# Altium footprint library Capacitor.PcbLib: 5 footprints
Each footprint in its own frame and in the unit in brackets; x right, y up, seen from the top. Pads: shape width x height; smd on the part's side, far side on the other; paste and mask are expansions set on the pad; w line width, h text height; cw(c..) or ccw(c..) is an arc to the next point about the centre after c.
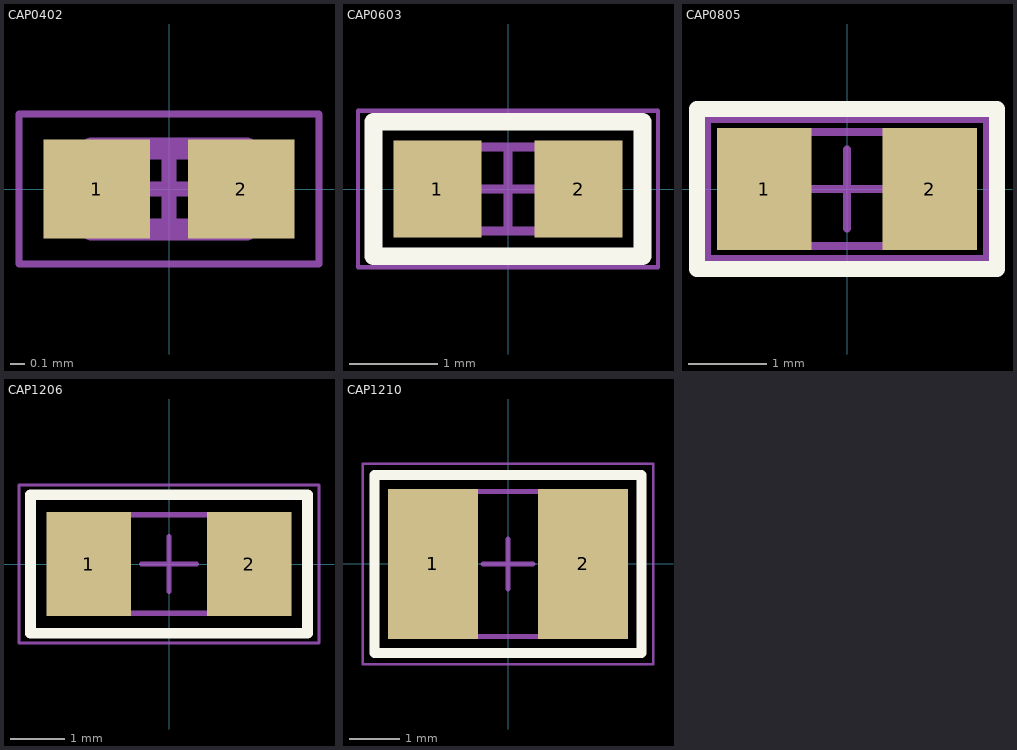
[diagram p0: the footprints below, top view; thin cyan lines are the x and y axes]

## CAP0402 [mm]
pads (2):
  rect 0.72x0.67 smd: 1(-0.49,0) 2(0.49,0)
Mechanical 1:
  lines w0.15: -0.525,-0.275 0.525,-0.275 0.525,0.275 -0.525,0.275 -0.525,-0.275
  text ".Designator" at -0.378,-0.175 h0.5
Mechanical 13:
  lines w0.1: -0.525,-0.275 -0.525,0.275 0.525,0.275 0.525,-0.275 -0.525,-0.275
Mechanical 15:
  lines w0.05: -1.016,-0.508 -1.016,0.508 1.016,0.508 1.016,-0.508 -1.016,-0.508
  lines w0.1: -0.275,0 0.275,0 ; 0,-0.275 0,0.275
3D body: height 0.55, standoff 0, extent -0.275,-0.275 0.275,0.275
3D body: height 0.55, standoff 0, extent -0.525,-0.275 -0.275,0.275
3D body: height 0.55, standoff 0, extent 0.275,-0.275 0.525,0.275

## CAP0603 [mm]
pads (2):
  rect 1x1.1 smd: 1(-0.8,0) 2(0.8,0)
Top Overlay:
  lines w0.2: -1.524,-0.762 -1.524,0.762 1.524,0.762 1.524,-0.762 -1.524,-0.762
Mechanical 1:
  lines w0.1: -0.875,-0.475 0.875,-0.475 0.875,0.475 -0.875,0.475 -0.875,-0.475
  text ".Designator" at 0,0 h0.6
Mechanical 13:
  lines w0.1: -0.875,-0.475 0.875,-0.475 0.875,0.475 -0.875,0.475 -0.875,-0.475
Mechanical 15:
  lines w0.05: -1.7,-0.889 1.7,-0.889 1.7,0.889 -1.7,0.889 -1.7,-0.889
  lines w0.1: -0.475,0 0.475,0 ; 0,-0.475 0,0.475
3D body: height 0.87, standoff 0, extent 0.525,-0.475 0.875,0.475
3D body: height 0.87, standoff 0, extent -0.875,-0.475 -0.525,0.475
3D body: height 0.87, standoff 0, extent -0.525,-0.475 0.525,0.475

## CAP0805 [mm]
pads (2):
  rect 1.2x1.55 smd: 1(-1.05,0) 2(1.05,0)
Top Overlay:
  lines w0.2: -1.905,-1.016 -1.905,1.016 1.905,1.016 1.905,-1.016 -1.905,-1.016
Mechanical 1:
  lines w0.1: -1.778,-0.889 1.778,-0.889 1.778,0.889 -1.778,0.889 -1.778,-0.889
  text ".Designator" at -0.251,-0.302 h1
Mechanical 13:
  lines w0.1: -1.1,-0.725 -1.1,0.725 1.1,0.725 1.1,-0.725 -1.1,-0.725
Mechanical 15:
  lines w0.05: -1.905,-1 -1.905,1 1.905,1 1.905,-1 -1.905,-1
  lines w0.1: -0.5,0 0.5,0 ; 0,-0.5 0,0.5
3D body "User Library-SMD CAPACITOR0805.STEP": height 0.58, standoff -0.02, extent -1,-0.625 1,0.625

## CAP1206 [mm]
pads (2):
  rect 1.55x1.9 smd: 1(-1.475,0) 2(1.475,0)
Top Overlay:
  lines w0.2: -2.54,-1.27 -2.54,1.27 2.54,1.27 2.54,-1.27 -2.54,-1.27
Mechanical 1:
  lines w0.1: -2.54,-1.27 -2.54,1.27 2.54,1.27 2.54,-1.27 -2.54,-1.27
  text ".Designator" at 0,-0.127 h1
Mechanical 13:
  lines w0.1: -1.7,-0.9 -1.7,0.9 1.7,0.9 1.7,-0.9 -1.7,-0.9
Mechanical 15:
  lines w0.05: -2.75,-1.45 -2.75,1.45 2.75,1.45 2.75,-1.45 -2.75,-1.45
  lines w0.1: -0.5,0 0.5,0 ; 0,-0.5 0,0.5
3D body: height 1.8, standoff 0, extent -1.15,-0.9 1.15,0.9
3D body: height 1.8, standoff 0, extent -1.7,-0.9 -1.15,0.9
3D body: height 1.8, standoff 0, extent 1.15,-0.9 1.7,0.9

## CAP1210 [mm]
pads (2):
  rect 1.8x3 smd: 1(-1.5,0) 2(1.5,0)
Top Overlay:
  lines w0.2: -2.667,-1.778 2.667,-1.778 2.667,1.778 -2.667,1.778 -2.667,-1.778
Mechanical 1:
  lines w0.1: -2.667,-1.778 2.667,-1.778 2.667,1.778 -2.667,1.778 -2.667,-1.778
  text ".Designator" at 0.003,-0.175 h1.5
Mechanical 13:
  lines w0.1: -1.85,-1.45 -1.85,1.45 1.85,1.45 1.85,-1.45 -1.85,-1.45
Mechanical 15:
  lines w0.05: -2.9,-2 -2.9,2 2.9,2 2.9,-2 -2.9,-2
  lines w0.1: -0.5,0 0.5,0 ; 0,-0.5 0,0.5
3D body: height 2.8, standoff 0, extent -1.25,-1.45 1.25,1.45
3D body: height 2.8, standoff 0, extent -1.85,-1.45 -1.25,1.45
3D body: height 2.8, standoff 0, extent 1.25,-1.45 1.85,1.45